# Altium integrated library 1000pf_NP0_lowesr_1210.IntLib: 1 symbol
Pins are listed as number, name and electrical type; pins without a type are passive.

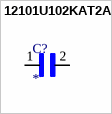
[diagram p0: symbol 12101U102KAT2A]

## 12101U102KAT2A
designator C?
1210 1 nF 100 V Â±10 % Tolerance SMT Ultra Low ESR RF/Microwave Capacitor; MP: 12101U102KAT2A; Package: None; Price: None; Value: *; Availability: Unavailable
footprint CAPC3224X140N
pins: 1, 2